# EAGLE library part 74HC283 (library IC_Logic)
4-bit binary full Adder Reference Datasheet <https://www.ti.com/lit/ds/symlink/cd54hc283.pdf?ts=1637565087099>
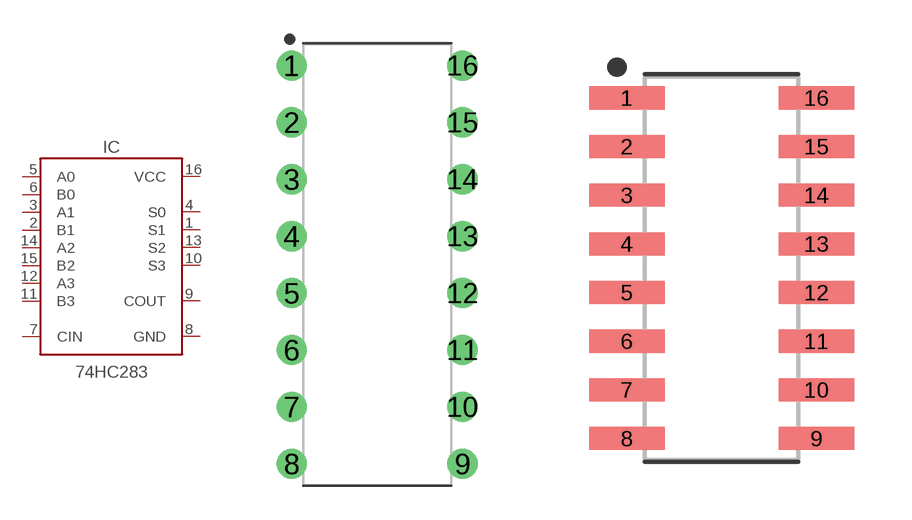
[diagram p22: symbol with the pads of DIP762W53P254L1969H508Q16B; footprints DIP762W53P254L1969H508Q16B, SOIC127P600X175-16N]

Designator prefix IC

## 74HC283_PDIP (CATEGORY: IC_Logic; DESCRIPTION: 4-bit binary full Adder; MANUFACTURER: Generic; MPN: Generic; SUB-CATEGORY: Binary Adder; TYPE: 4-bit; VALUE: 74HC283)  [DIP762W53P254L1969H508Q16B]
1  S1  out
2  B1  in
3  A1  in
4  S0  out
5  A0  in
6  B0  in
7  CIN  out
8  GND
9  COUT  out
10  S3  out
11  B3  in
12  A3  in
13  S2  out
14  A2  in
15  B2  in
16  VCC

## 74HC283_SOIC (CATEGORY: IC_Logic; DESCRIPTION: 4-bit binary full Adder; MANUFACTURER: Generic; MPN: Generic; SUB-CATEGORY: Binary Adder; TYPE: 4-bit; VALUE: 74HC283)  [SOIC127P600X175-16N]
Pads as for DIP762W53P254L1969H508Q16B

## Footprint DIP762W53P254L1969H508Q16B (pad centres in mm)
16-DIP, 2.54 mm (0.10 in) pitch, 7.62 mm (0.30 in) span, 19.69 X 6.6 X 5.08 mm body 16-pin DIP package with 2.54 mm (0.10 in) pitch, 7.62 mm (0.30 in) span with body size 19.69 X 6.6 X 5.08 mm
drill 0.743 pad 1.343: 1 -3.81,8.89; 2 -3.81,6.35; 3 -3.81,3.81; 4 -3.81,1.27; 5 -3.81,-1.27; 6 -3.81,-3.81; 7 -3.81,-6.35; 8 -3.81,-8.89; 9 3.81,-8.89; 10 3.81,-6.35; 11 3.81,-3.81; 12 3.81,-1.27; 13 3.81,1.27; 14 3.81,3.81; 15 3.81,6.35; 16 3.81,8.89

## Footprint SOIC127P600X175-16N (pad centres in mm)
16-SOIC, 1.27 mm pitch, 6.00 mm span, 9.90 X 3.90 X 1.75 mm body 16-pin SOIC package with 1.27 mm pitch, 6.00 mm span with body size 9.90 X 3.90 X 1.75 mm
smd 1.969 x 0.602: 1 -2.474,4.445; 2 -2.474,3.175; 3 -2.474,1.905; 4 -2.474,0.635; 5 -2.474,-0.635; 6 -2.474,-1.905; 7 -2.474,-3.175; 8 -2.474,-4.445; 9 2.474,-4.445; 10 2.474,-3.175; 11 2.474,-1.905; 12 2.474,-0.635; 13 2.474,0.635; 14 2.474,1.905; 15 2.474,3.175; 16 2.474,4.445